# EAGLE library part 649016227222 (library Wurth_Elektronik_Electromechanic_Wire_to_Board_Connectors_rev16a)
WR-MPC4-4.20mm Male Dual Row Angled Header with Mounting Pegs,16 pins=>Code : Con_WTB_MPC4_2_PCB_649016227222 <http://katalog.we-online.de/media/thumbs2/eican/thb_Con_WTB_MPC4_2_PCB_6490xx227222_pf2.jpg> Details see: http://katalog.we-online.de/en/em/649_0xx_227_222 Created 2014-06-06, Karrer Zheng 2014 (C) Würth Elektronik
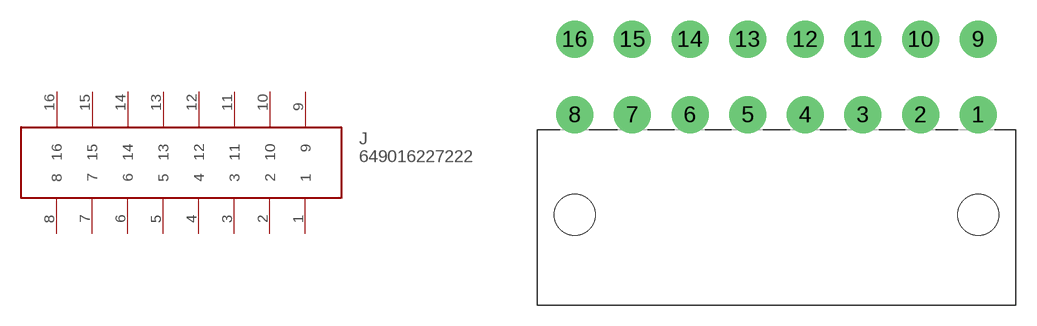
[diagram p303: symbol with the pads of 649016227222; footprint 649016227222]

Designator prefix J

## 649016227222  [649016227222]
1  1
2  2
3  3
4  4
5  5
6  6
7  7
8  8
9  9
10  10
11  11
12  12
13  13
14  14
15  15
16  16

## Footprint 649016227222 (pad centres in mm)
WR-MPC4-4.20mm Male Dual Row Angled Header with Mounting Pegs,16 pins
drill 1.8: 1 14.7,7.3; 2 10.5,7.3; 3 6.3,7.3; 4 2.1,7.3; 5 -2.1,7.3; 6 -6.3,7.3; 7 -10.5,7.3; 8 -14.7,7.3; 9 14.7,12.8; 10 10.5,12.8; 11 6.3,12.8; 12 2.1,12.8; 13 -2.1,12.8; 14 -6.3,12.8; 15 -10.5,12.8; 16 -14.7,12.8
hole 3 at -14.7,0
hole 3 at 14.7,0